# Altium footprint library falcon.PcbLib: 9 footprints
Each footprint in its own frame and in the unit in brackets; x right, y up, seen from the top. Pads: shape width x height; smd on the part's side, far side on the other; paste and mask are expansions set on the pad; w line width, h text height; cw(c..) or ccw(c..) is an arc to the next point about the centre after c.
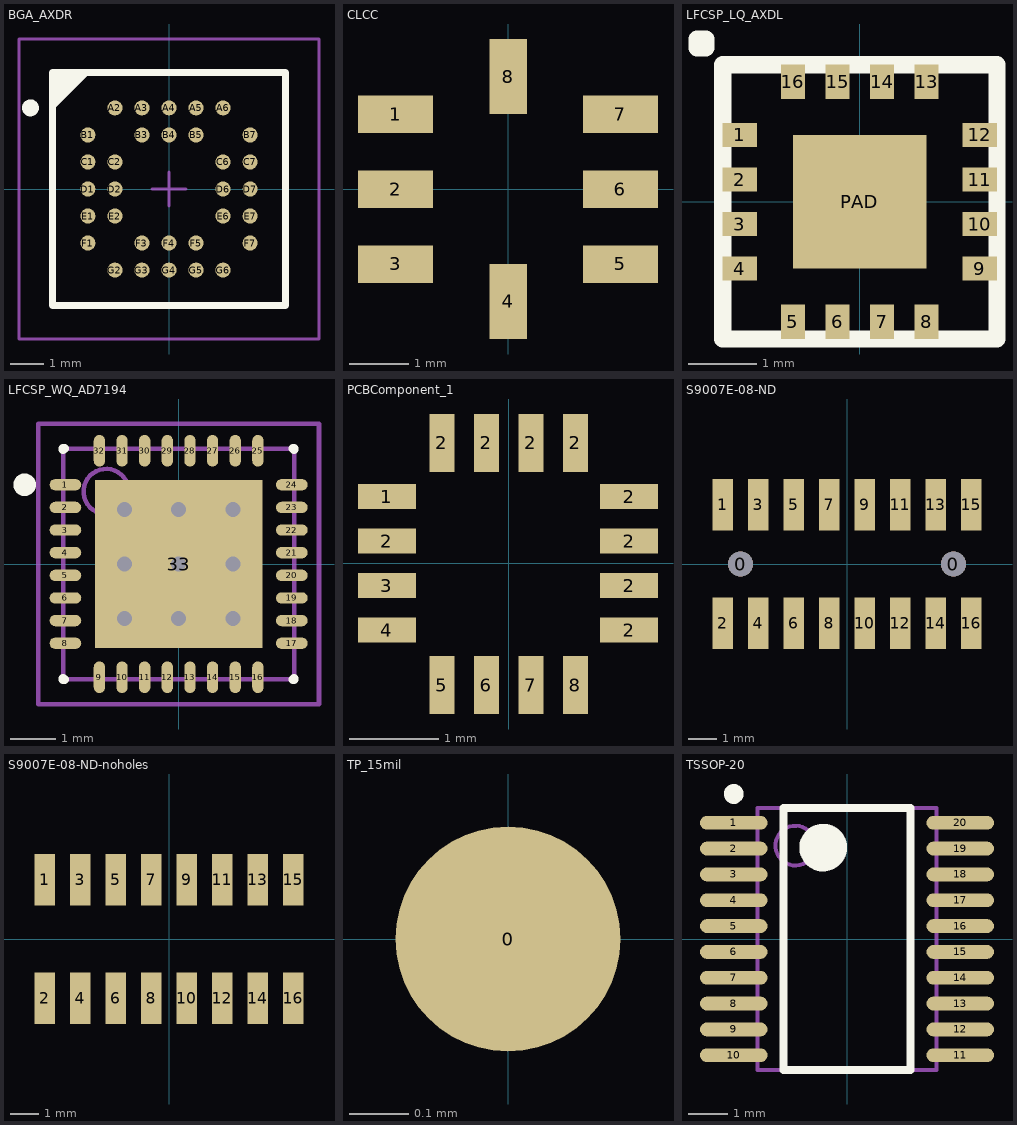
[diagram p0: the footprints below, top view; thin cyan lines are the x and y axes]

## BGA_AXDR [mm] "From AXDRS622 Datasheet"
height 3.8
pads (32):
  round 0.45 smd: A2(-1.6,2.4) A3(-0.8,2.4) A4(0,2.4) A5(0.8,2.4) A6(1.6,2.4) B1(-2.4,1.6) B3(-0.8,1.6) B4(0,1.6) B5(0.8,1.6) B7(2.4,1.6) C1(-2.4,0.8) C2(-1.6,0.8) C6(1.6,0.8) C7(2.4,0.8) D1(-2.4,0) D2(-1.6,0) D6(1.6,0) D7(2.4,0) E1(-2.4,-0.8) E2(-1.6,-0.8) E6(1.6,-0.8) E7(2.4,-0.8) F1(-2.4,-1.6) F3(-0.8,-1.6) F4(0,-1.6) F5(0.8,-1.6) F7(2.4,-1.6) G2(-1.6,-2.4) G3(-0.8,-2.4) G4(0,-2.4) G5(0.8,-2.4) G6(1.6,-2.4)
Top Overlay:
  circle w0.25: c-4.1,2.4 r0.125
  region: -2.45,3.45 -3.45,2.45 -3.45,3.45
  lines w0.2: -3.45,2.45 -2.45,3.45 ; -3.45,-3.45 -3.45,3.45 3.45,3.45 3.45,-3.45 -3.45,-3.45
Mechanical 13:
  lines w0.1: -3.45,-3.45 -3.45,3.45 3.45,3.45 3.45,-3.45 -3.45,-3.45
Mechanical 15:
  lines w0.1: -0.5,0 0.5,0 ; 0,-0.5 0,0.5 ; -4.437,-4.437 -4.437,4.437 4.437,4.437 4.437,-4.437 -4.437,-4.437
3D body: height 3.8, standoff 0.6, extent -3.45,-3.45 3.45,3.45

## CLCC [mm] "from ADXL103"
pads (8):
  rect 1.27x0.635 smd: 1(-1.905,1.27) 2(-1.905,0) 3(-1.905,-1.27) 5(1.905,-1.27) 6(1.905,0) 7(1.905,1.27)
  rect 0.635x1.27 smd: 4(0,-1.905) 8(0,1.905)

## LFCSP_LQ_AXDL [mm]
height 1.45
pads (17):
  rect 0.5x0.35 smd mask+0.102: 1(-1.75,0.975) 2(-1.75,0.325) 3(-1.75,-0.325) 4(-1.75,-0.975) 9(1.75,-0.975) 10(1.75,-0.325) 11(1.75,0.325) 12(1.75,0.975)
  rect 0.35x0.5 smd mask+0.102: 5(-0.975,-1.75) 6(-0.325,-1.75) 7(0.325,-1.75) 8(0.975,-1.75) 13(0.975,1.75) 14(0.325,1.75) 15(-0.325,1.75) 16(-0.975,1.75)
  rect 1.95x1.95 smd: PAD(0,0)
Top Overlay:
  lines w0.254: -2.375,2.375 -2.375,2.25 -2.25,2.25 -2.25,2.375 -2.35,2.375 ; -2,-2 2,-2 2,2 -2,2 -2,-2

## LFCSP_WQ_AD7194 [mm] "From AD7194 Datasheet"
height 0.8
pads (33):
  oval 0.7x0.25 smd: 1(-2.5,1.75) 2(-2.5,1.25) 3(-2.5,0.75) 4(-2.5,0.25) 5(-2.5,-0.25) 6(-2.5,-0.75) 7(-2.5,-1.25) 8(-2.5,-1.75) 17(2.5,-1.75) 18(2.5,-1.25) 19(2.5,-0.75) 20(2.5,-0.25) 21(2.5,0.25) 22(2.5,0.75) 23(2.5,1.25) 24(2.5,1.75)
  oval 0.25x0.7 smd: 9(-1.75,-2.5) 10(-1.25,-2.5) 11(-0.75,-2.5) 12(-0.25,-2.5) 13(0.25,-2.5) 14(0.75,-2.5) 15(1.25,-2.5) 16(1.75,-2.5) 25(1.75,2.5) 26(1.25,2.5) 27(0.75,2.5) 28(0.25,2.5) 29(-0.25,2.5) 30(-0.75,2.5) 31(-1.25,2.5) 32(-1.75,2.5)
  rect 3.7x3.7 smd: 33(0,0)
via -1.2,1.2 diameter 0.66 hole 0.33
via 0,1.2 diameter 0.66 hole 0.33
via 1.2,1.2 diameter 0.66 hole 0.33
via -1.2,0 diameter 0.66 hole 0.33
via 0,0 diameter 0.66 hole 0.33
via 1.2,0 diameter 0.66 hole 0.33
via -1.2,-1.2 diameter 0.66 hole 0.33
via 0,-1.2 diameter 0.66 hole 0.33
via 1.2,-1.2 diameter 0.66 hole 0.33
Top Overlay:
  circle w0.25: c-3.4,1.75 r0.125
  lines w0.2: -2.55,-2.525 -2.55,-2.55 -2.525,-2.55 ; -2.55,2.525 -2.55,2.55 -2.525,2.55 ; 2.525,-2.55 2.55,-2.55 2.55,-2.525 ; 2.525,2.55 2.55,2.55 2.55,2.525
Mechanical 13:
  circle w0.1: c-1.6,1.6 r0.5
  lines w0.1: -2.55,-2.55 -2.55,2.55 2.55,2.55 2.55,-2.55 -2.55,-2.55
Mechanical 15:
  lines w0.1: -0.5,0 0.5,0 ; 0,-0.5 0,0.5 ; -3.1,-3.1 -3.1,3.1 3.1,3.1 3.1,-3.1 -3.1,-3.1
3D body: height 0.8, standoff 0.05, extent -2.55,-2.55 2.55,2.55

## PCBComponent_1 [mm]
pads (16):
  rect 0.65x0.28 smd: 1(-1.369,0.75) 2(-1.369,0.25) 2(1.355,-0.75) 2(1.355,-0.25) 2(1.355,0.25) 2(1.355,0.75) 3(-1.369,-0.25) 4(-1.369,-0.75)
  rect 0.28x0.65 smd: 2(-0.75,1.355) 2(-0.25,1.355) 2(0.25,1.355) 2(0.75,1.355) 5(-0.75,-1.369) 6(-0.25,-1.369) 7(0.25,-1.369) 8(0.75,-1.369)

## S9007E-08-ND [mm] "16 0.05\" smd header - female"
pads (18):
  round 0.9 hole 0.9: 0(-3.81,0) 0(3.81,0)
  rect 0.74x1.85 smd: 1(-4.445,2.125) 2(-4.445,-2.125) 3(-3.175,2.125) 4(-3.175,-2.125) 5(-1.905,2.125) 6(-1.905,-2.125) 7(-0.635,2.125) 8(-0.635,-2.125) 9(0.635,2.125) 10(0.635,-2.125) 11(1.905,2.125) 12(1.905,-2.125) 13(3.175,2.125) 14(3.175,-2.125) 15(4.445,2.125) 16(4.445,-2.125)

## S9007E-08-ND-noholes [mm] "16 0.05\" smd header - female"
pads (16):
  rect 0.74x1.85 smd: 1(-4.445,2.125) 2(-4.445,-2.125) 3(-3.175,2.125) 4(-3.175,-2.125) 5(-1.905,2.125) 6(-1.905,-2.125) 7(-0.635,2.125) 8(-0.635,-2.125) 9(0.635,2.125) 10(0.635,-2.125) 11(1.905,2.125) 12(1.905,-2.125) 13(3.175,2.125) 14(3.175,-2.125) 15(4.445,2.125) 16(4.445,-2.125)

## TP_15mil [mil]
pads (1):
  round 15 smd paste+0 mask+0: 0(0,0)

## TSSOP-20 [mm]
height 1.2
pads (20):
  oval 1.7x0.35 smd: 1(-2.85,2.925) 2(-2.85,2.275) 3(-2.85,1.625) 4(-2.85,0.975) 5(-2.85,0.325) 6(-2.85,-0.325) 7(-2.85,-0.975) 8(-2.85,-1.625) 9(-2.85,-2.275) 10(-2.85,-2.925) 11(2.85,-2.925) 12(2.85,-2.275) 13(2.85,-1.625) 14(2.85,-0.975) 15(2.85,-0.325) 16(2.85,0.325) 17(2.85,0.975) 18(2.85,1.625) 19(2.85,2.275) 20(2.85,2.925)
Top Overlay:
  circle w0.25: c-2.85,3.65 r0.125
  circle w0.6: c-0.6,2.3 r0.3
  lines w0.2: -1.6,-3.3 -1.6,3.3 1.6,3.3 1.6,-3.3 -1.6,-3.3
Mechanical 13:
  circle w0.1: c-1.3,2.35 r0.5
  lines w0.1: -2.25,-3.3 -2.25,3.3 2.25,3.3 2.25,-3.3 -2.25,-3.3
3D body: height 1.2, standoff 0.1, extent -2.25,-3.3 2.25,3.3